# EAGLE library part CD40109BPWE4 (library CD40109BPWE4)
Translation - Voltage Levels CMOS Quad Lo-to-Hi Vltg Level Shifter Source: Datasheet <https://www.ti.com/lit/ds/symlink/cd40109b.pdf?HQS=dis-mous-null-mousermode-dsf-pf-null-wwe&ts=1618640692719&ref_url=https%3A%2F%2Fwww.mouser.in%2F>
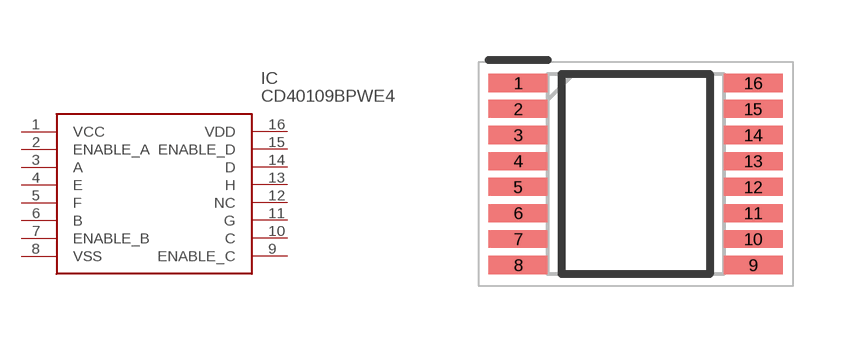
[diagram p0: symbol with the pads of SOP65P640X120-16N; footprint SOP65P640X120-16N]

Designator prefix IC

## CD40109BPWE4 (Description: Translation - Voltage Levels CMOS Quad Lo-to-Hi Vltg Level Shifter; Height: 1.2mm; Manufacturer_Name: Texas Instruments; Manufacturer_Part_Number: CD40109BPWE4; Mouser_Part_Number: 595-CD40109BPWE4; Mouser_Price-Stock: https://www.mouser.co.uk/ProductDetail/Texas-Instruments/CD40109BPWE4?qs=vmM6vcLFxxFENXGAN0nSpA%3D%3D)  [SOP65P640X120-16N]
1  VCC
2  ENABLE_A
3  A
4  E
5  F
6  B
7  ENABLE_B
8  VSS
9  ENABLE_C
10  C
11  G
12  NC  nc
13  H
14  D
15  ENABLE_D
16  VDD

## Footprint SOP65P640X120-16N (pad centres in mm)
PW0016A
smd 1.475 x 0.45: 1 -2.938,2.275; 2 -2.938,1.625; 3 -2.938,0.975; 4 -2.938,0.325; 5 -2.938,-0.325; 6 -2.938,-0.975; 7 -2.938,-1.625; 8 -2.938,-2.275; 9 2.938,-2.275; 10 2.938,-1.625; 11 2.938,-0.975; 12 2.938,-0.325; 13 2.938,0.325; 14 2.938,0.975; 15 2.938,1.625; 16 2.938,2.275